# Altium footprint library TE-292172-6.PcbLib: 1 footprints
Each footprint in its own frame and in the unit in brackets; x right, y up, seen from the top. Pads: shape width x height; smd on the part's side, far side on the other; paste and mask are expansions set on the pad; w line width, h text height; cw(c..) or ccw(c..) is an arc to the next point about the centre after c.
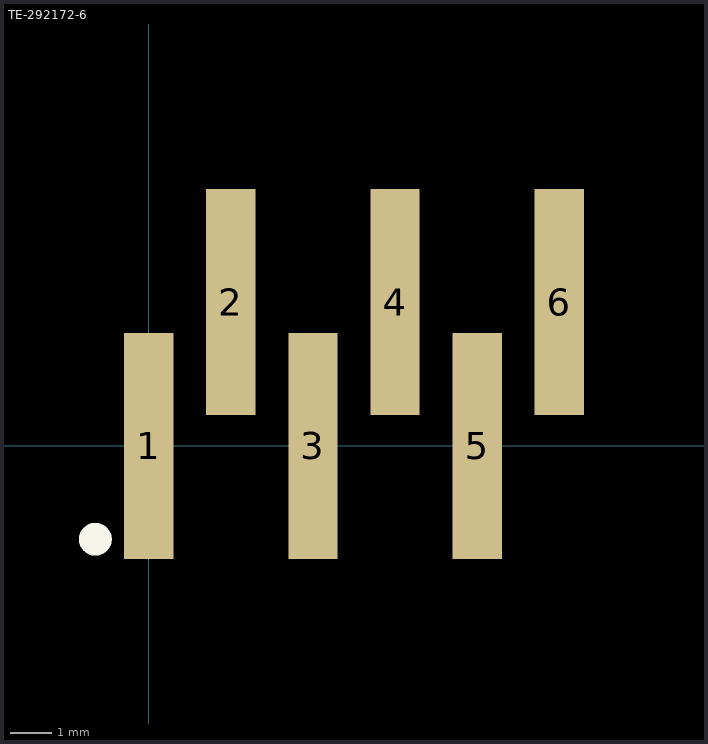
[diagram p0: the footprint, top view; thin cyan lines are the x and y axes]

## TE-292172-6 [mm]
pads (6):
  rect 1.2x5.5 smd mask+0.051: 1(0,0) 2(2,3.5) 3(4,0) 4(6,3.5) 5(8,0) 6(10,3.5)
Top Overlay:
  circle w0.4: c-1.3,-2.275 r0.2
3D body: height 7.8, standoff 0, extent -2.3,-2.25 11.7,5.75